# EAGLE library part NHD-C0220BIZ (library T06_LockBox)
NHD-C0220Biz - Character Liquid Crystal DIsplay Module Source: http://www.newhavendisplay.com/specs/NHD-C0220BiZ-FSRGB-FBW-3VM.pdf
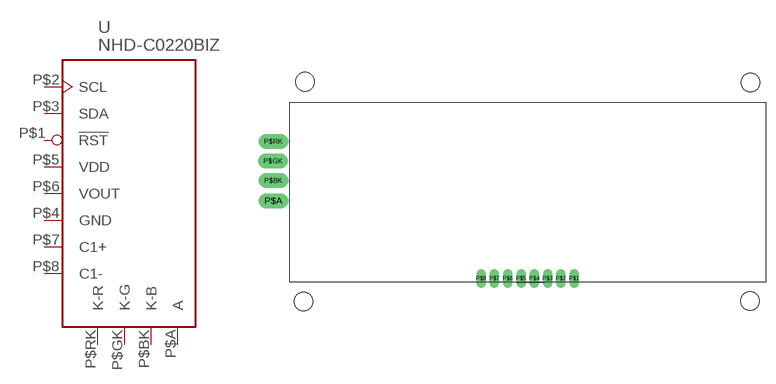
[diagram p1: symbol with the pads of NHD-C0220BIZ-LCD; footprint NHD-C0220BIZ-LCD]

Designator prefix -

## NHD-C0220BIZ (COG: 2x20; INTERFACE: I2C; VOLTS: 3.3V)  [NHD-C0220BIZ-LCD]
P$1  !RST  in
P$2  SCL
P$3  SDA
P$4  GND  pwr
P$5  VDD  pwr
P$6  VOUT
P$7  C1+
P$8  C1-
P$A  A
P$BK  K-B
P$GK  K-G
P$RK  K-R

## Footprint NHD-C0220BIZ-LCD (pad centres in mm)
Footprint to the LDC screen. Note: The pads on the left are 3mm pitch and blade type. .3mm thick and ~1.5mm wide
drill 0.9 long: P$1 7,-16.2; P$2 5,-16.2; P$3 3,-16.2; P$4 1,-16.2; P$5 -1,-16.2; P$6 -3,-16.2; P$7 -5,-16.2; P$8 -7,-16.2
drill 1.524 long: P$A -38.286,-4.52; P$BK -38.278,-1.45; P$GK -38.33,1.49; P$RK -38.282,4.43
hole 2.8 at 33.45,-19.6
hole 2.8 at 33.55,13.3
hole 2.8 at -33.55,13.4
hole 2.8 at -33.75,-19.7